# Altium footprint library DF201607111.PcbLib: 111 footprints (part 2 of 7)
Each footprint in its own frame and in the unit in brackets; x right, y up, seen from the top. Pads: shape width x height; smd on the part's side, far side on the other; paste and mask are expansions set on the pad; w line width, h text height; cw(c..) or ccw(c..) is an arc to the next point about the centre after c.
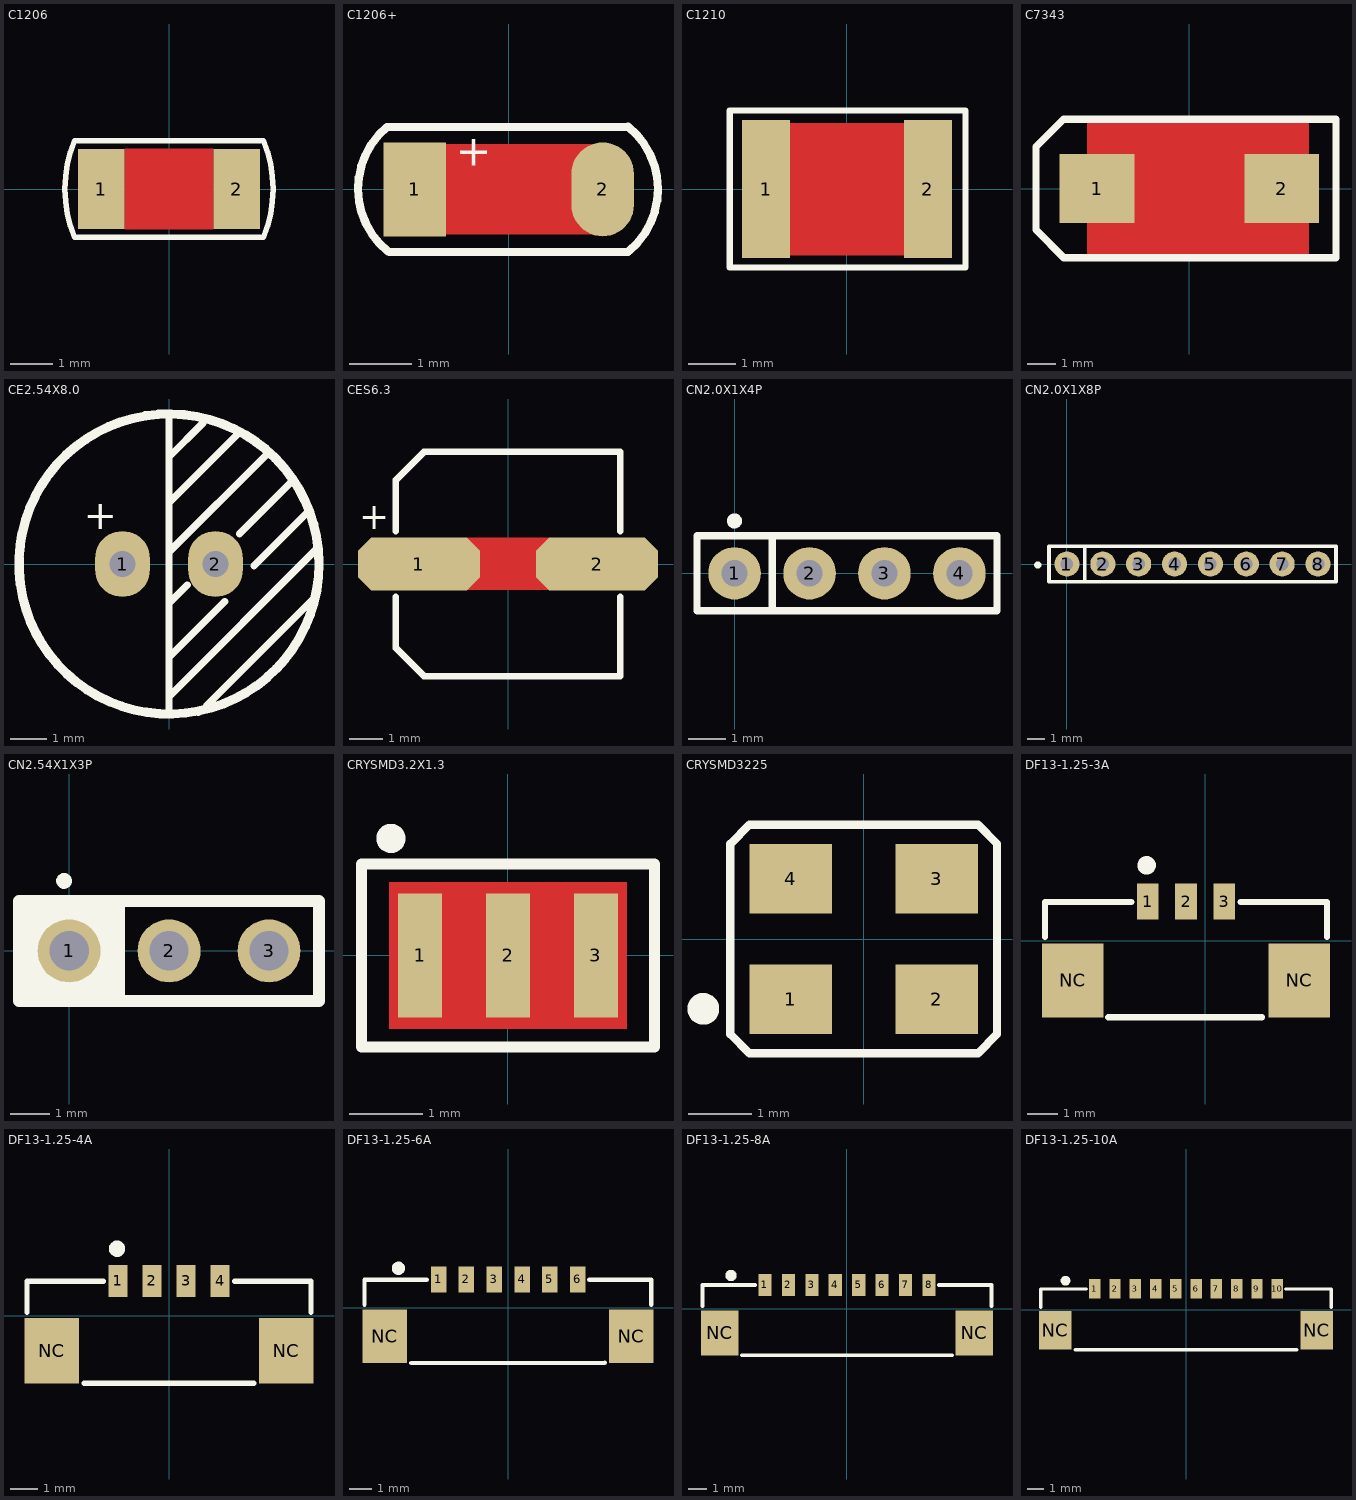
[diagram p1: the footprints below, top view; thin cyan lines are the x and y axes]

## C1206 [mm]
pads (2):
  rect 1.1x1.9 smd: 1(-1.6,0) 2(1.6,0)
Top Layer:
  pour cut-out: -1.05,0.95 1.05,0.95 1.05,-0.95 -1.05,-0.95
Top Overlay:
  lines w0.13: -2.231,-1.142 cw(c0.543,0) -2.231,1.142 2.231,1.142 cw(c-0.543,0) 2.231,-1.142 -2.231,-1.142

## C1206+ [mm]
pads (2):
  rect 1x1.5 smd: 1(-1.5,0)
  oval 1x1.5 smd: 2(1.5,0)
Top Layer:
  pour cut-out: -1.93,0.723 -1.93,-0.719 1.633,-0.719 1.633,0.723
Top Overlay:
  lines w0.13: -1.945,0.998 ccw(c-1.127,0.01) -1.93,-0.991 ; -1.905,-1 1.905,-1 ; -1.905,1 1.88,1 ; 1.905,1.003 cw(c1.102,0.003) 1.92,-0.985
  text "+" at -0.85,0.375 h0.5

## C1210 [mm]
pads (2):
  rect 1x2.9 smd: 1(-1.7,0) 2(1.7,0)
Top Layer:
  pour cut-out: -2.115,1.384 -2.113,1.383 -2.113,-1.392 2.073,-1.392 2.078,-1.387 2.078,1.392
Top Overlay:
  lines w0.13: -2.462,-1.651 -2.462,1.651 2.491,1.651 2.491,-1.651 -2.462,-1.651

## C7343 [mm]
pads (2):
  rect 2.6x2.4 smd: 1(-3.2,0) 2(3.2,0)
Top Layer:
  pour cut-out: -3.537,2.339 -3.55,2.327 -3.55,-2.408 4.097,-2.408 4.135,-2.446 4.135,2.417
Top Overlay:
  lines w0.254: -4.367,-2.395 5.082,-2.395 5.082,2.381 ; -4.36,-2.395 -5.323,-1.432 -5.323,1.45 -4.367,2.406 5.082,2.399
3D body: height 0.3, standoff 0, extent -3.485,-0.876 -3.39,0.813
3D body: height 0.3, standoff 0, extent 3.31,-0.862 3.514,0.908

## CE2.54X8.0 [mm]
height 1.3
pads (2):
  oval 1.5x1.8 hole 0.7: 1(-1.27,0) 2(1.27,0)
Top Overlay:
  lines w0.2: 0,-4.05 0,4 ; 0,-3.625 4.025,0.4 ; 0,-2.55 1.525,-1.025 ; 0,-1.075 0.5,-0.575 ; 0,1.675 1.85,3.525 ; 0,2.925 0.925,3.85 ; 0.05,0.375 2.65,2.975 ; 1.025,-3.875 3.95,-0.95 ; 1.925,0.825 3.3,2.2 ; 2.325,-0.05 3.8,1.425
  lines w0.254: 4.1,0 cw(c0,0) 4.1,0.039
  text "+" at -2.325,0.95 h0.8

## CES6.3 [mm]
height 1.3
pads (2):
  oct 3.7x1.6 smd: 1(-2.7,0) 2(2.7,0)
Top Layer:
  pour cut-out: -1.25,0.8 1.25,0.8 1.25,-0.8 1.225,-0.775 -1.25,-0.775
Top Overlay:
  lines w0.2: -3.4,-1 -3.4,-2.55 -2.55,-3.4 3.4,-3.4 3.4,-1 ; -3.4,1 -3.4,2.55 -2.55,3.4 3.4,3.4 3.4,1
  text "+" at -4.51,1.048 h0.8

## CN2.0X1X4P [mm]
pads (4):
  round 1.4 hole 0.7: 1(0,0) 2(2,0) 3(4,0) 4(6,0)
Top Overlay:
  circle w0.2: c0,1.397 r0.1
  lines w0.2: 1,-1 1,1 ; -1,-1 7,-1 7,1 -1,1 -1,-1

## CN2.0X1X8P [mm]
pads (8):
  round 1.4 hole 0.7: 1(0,0) 2(2,0) 3(4,0) 4(6,0) 5(8,0) 6(10,0) 7(12,0) 8(14,0)
Top Overlay:
  circle w0.2: c-1.625,-0.06 r0.1
  lines w0.2: 1,-1 1,1 ; -1,-1 15,-1 15,1 -1,1 -1,-1

## CN2.54X1X3P [mm]
height 1.3
pads (3):
  round 1.6 hole 1: 1(0,0) 2(2.54,0) 3(5.08,0)
Top Overlay:
  circle w0.2: c-0.127,1.778 r0.1
  region: 1.27,-1.27 1.27,1.27 -1.275,1.27 -1.275,-1.27
  lines w0.3: 1.27,-1.27 1.27,1.27 ; -1.27,-1.27 6.35,-1.27 6.35,1.27 -1.27,1.27 -1.27,-1.27

## CRYSMD3.2X1.3 [mm]
pads (3):
  rect 0.6x1.7 smd: 1(-1.2,0) 2(0,0) 3(1.2,0)
Top Layer:
  pour cut-out: -1.625,1 1.625,1 1.625,-1 -1.625,-1
Top Overlay:
  circle w0.2: c-1.6,1.6 r0.1
  lines w0.15: -2,-1.25 -2,1.25 2,1.25 2,-1.25 -2,-1.25

## CRYSMD3225 [mm]
height 0.8
pads (4):
  rect 1.3x1.1 smd: 1(-1.15,-0.95) 2(1.15,-0.95) 3(1.15,0.95) 4(-1.15,0.95)
Top Overlay:
  circle w0.3: c-2.525,-1.1 r0.1
  lines w0.13: -2.1,1.5 -2.1,-1.5 -1.8,-1.8 1.8,-1.8 2.1,-1.5 2.1,1.5 1.8,1.8 -1.8,1.8 -2.1,1.5

## DF13-1.25-3A [mm] "佳能"
pads (5):
  rect 0.7x1.18 smd: 1(-1.875,1.28) 2(-0.625,1.28) 3(0.625,1.28)
  rect 2x2.4 smd: NC(-4.3,-1.28) NC(3.05,-1.28)
Top Overlay:
  circle w0.3: c-1.906,2.459 r0.15
  lines w0.2: -5.207,0.135 -5.207,1.27 -2.405,1.27 ; -3.15,-2.48 1.85,-2.48 ; 1.155,1.27 3.957,1.27 3.957,0.135

## DF13-1.25-4A [mm] "佳能"
pads (6):
  rect 0.7x1.18 smd: 1(-1.875,1.28) 2(-0.625,1.28) 3(0.625,1.28) 4(1.875,1.28)
  rect 2x2.4 smd: NC(-4.3,-1.28) NC(4.3,-1.28)
Top Overlay:
  circle w0.3: c-1.906,2.459 r0.15
  lines w0.2: -5.207,0.135 -5.207,1.27 -2.405,1.27 ; -3.1,-2.48 3.1,-2.48 ; 2.405,1.27 5.207,1.27 5.207,0.135

## DF13-1.25-6A [mm]
pads (8):
  rect 0.7x1.18 smd: 1(-3.119,1.28) 2(-1.869,1.28) 3(-0.619,1.28) 4(0.631,1.28) 5(1.881,1.28) 6(3.131,1.28)
  rect 2x2.4 smd: NC(-5.544,-1.28) NC(5.544,-1.28)
Top Overlay:
  circle w0.3: c-4.927,1.778 r0.15
  lines w0.2: -6.451,0.135 -6.451,1.27 -3.649,1.27 ; -4.344,-2.48 4.356,-2.476 ; 3.658,1.27 6.439,1.27 6.439,0.135

## DF13-1.25-8A [mm]
pads (10):
  rect 0.7x1.18 smd: 1(-4.375,1.28) 2(-3.125,1.28) 3(-1.875,1.28) 4(-0.625,1.28) 5(0.625,1.28) 6(1.875,1.28) 7(3.125,1.28) 8(4.375,1.28)
  rect 2x2.4 smd: NC(-6.8,-1.28) NC(6.8,-1.28)
Top Overlay:
  circle w0.3: c-6.183,1.778 r0.15
  lines w0.2: -7.707,0.135 -7.707,1.27 -4.905,1.27 ; -5.6,-2.48 5.6,-2.48 ; 4.905,1.27 7.707,1.27 7.707,0.135

## DF13-1.25-10A [mm]
pads (12):
  rect 0.7x1.18 smd: 1(-5.625,1.28) 2(-4.375,1.28) 3(-3.125,1.28) 4(-1.875,1.28) 5(-0.625,1.28) 6(0.625,1.28) 7(1.875,1.28) 8(3.125,1.28) 9(4.375,1.28) 10(5.625,1.28)
  rect 2x2.4 smd: NC(-8.05,-1.28) NC(8.05,-1.28)
Top Overlay:
  circle w0.3: c-7.433,1.778 r0.15
  lines w0.2: -8.957,0.135 -8.957,1.27 -6.155,1.27 ; -6.85,-2.48 6.85,-2.48 ; 6.155,1.27 8.957,1.27 8.957,0.135